# Altium footprint library pedals-jacks.PCBLIB: 19 footprints (part 1 of 2)
Each footprint in its own frame and in the unit in brackets; x right, y up, seen from the top. Pads: shape width x height; smd on the part's side, far side on the other; paste and mask are expansions set on the pad; w line width, h text height; cw(c..) or ccw(c..) is an arc to the next point about the centre after c.
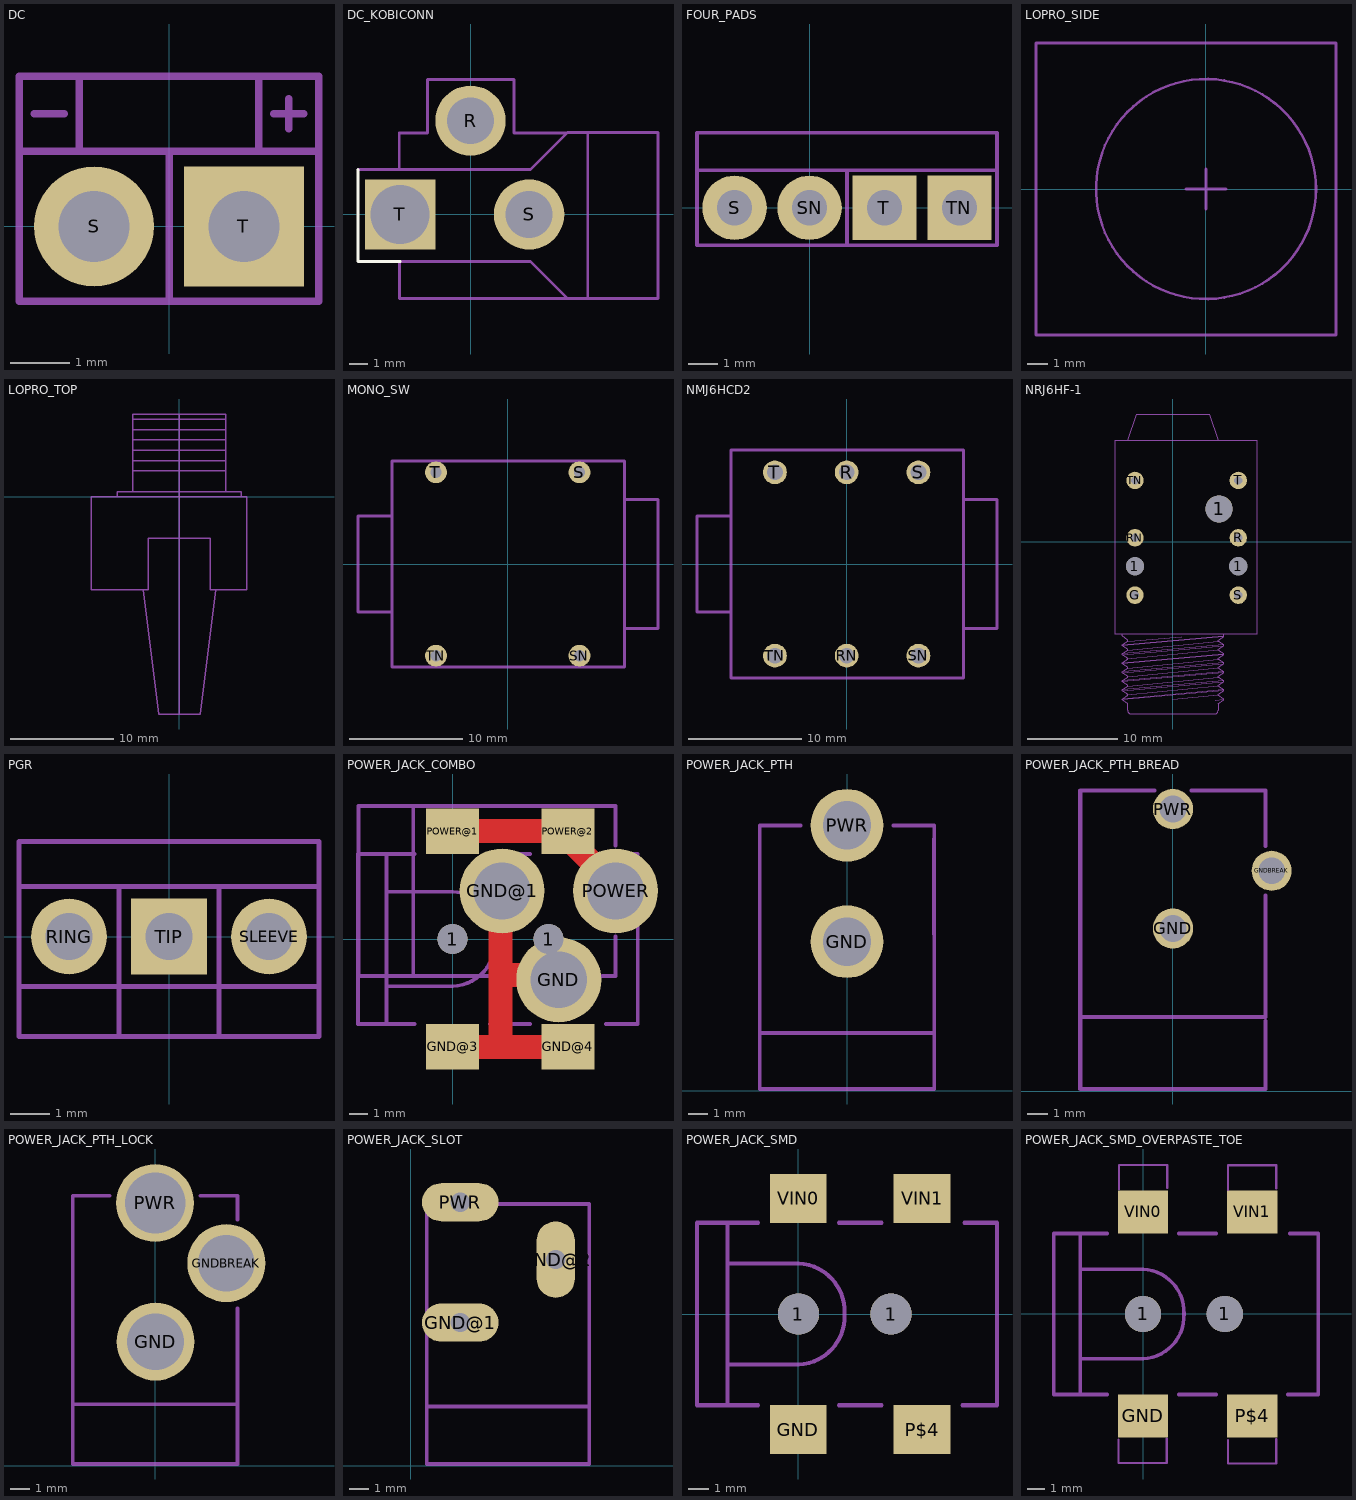
[diagram p0: the footprints below, top view; thin cyan lines are the x and y axes]

## DC [mil]
pads (2):
  round 80 hole 47.24: S(-50,0)
  rect 80x80 hole 47.24: T(50,0)
Mechanical 2:
  lines w5: -90,75 -70,75 ; 70,75 90,75 ; 80,65 80,85 ; -100,50 -60,50 ; -100,50 -100,-50 0,-50 ; -100,50 -100,85 -100,100 -60,100 ; -60,50 0,50 ; -60,50 -60,100 ; -60,100 60,100 ; 0,-50 0,50 ; 0,-50 100,-50 100,50 ; 0,50 60,50 ; 60,50 100,50 ; 60,50 60,100 ; 60,100 100,100 100,85 100,50
Mechanical 3:
  lines w5: -100,50 -60,50 ; -100,50 -100,-50 0,-50 ; -100,50 -100,85 -100,100 -60,100 ; -60,50 0,50 ; -60,50 -60,100 ; -60,100 60,100 ; 0,-50 0,50 ; 0,-50 100,-50 100,50 ; 0,50 60,50 ; 60,50 100,50 ; 60,50 60,100 ; 60,100 100,100 100,85 100,50

## DC_KOBICONN [mil]
pads (3):
  round 150 hole 100: R(0,200) S(125,0)
  rect 150x150 hole 125.98: T(-150,0)
Top Overlay:
  lines w6: -240,96.26 -240,-100.59 -150,-100.59
Mechanical 2:
  lines w6: -240,96 -152,96 ; 127,96 -152,96 ; 128.15,96.26 206.89,175 250,175 ; 206,174 93,174 93,288 -92,288 -92,174 -152,174 -152,96 ; 206.89,-179.33 250,-179.33 ; 206.89,-179.33 -151.18,-179.33 -151.18,-100.59 128.15,-100.59 206.89,-179.33 ; 250,-179.33 250,175 ; 250,-179.33 250,-178.94 250,-179.13 250,-179.33 ; 250,-179.33 400,-179.33 400,175 250,175

## FOUR_PADS [mil]
pads (4):
  round 86 hole 47.24: S(-100,0) SN(0,0)
  rect 86x86 hole 47.24: T(100,0) TN(200,0)
Mechanical 2:
  lines w5: -150,50 50,50 ; -150,50 -150,-50 50,-50 ; -150,50 -150,100 250,100 250,50 ; 50,-50 250,-50 250,50 ; 50,-50 50,50 ; 50,50 250,50
Mechanical 3:
  lines w5: -150,50 50,50 ; -150,50 -150,-50 50,-50 ; -150,50 -150,100 250,100 250,50 ; 50,-50 250,-50 250,50 ; 50,-50 50,50 ; 50,50 250,50

## LOPRO_SIDE [mil]
Mechanical 2:
  circle w5: c0,0 r216.54
  lines w5: -39.37,0 39.37,0 ; 0,-39.37 0,39.37 ; -334.65,-287.4 -334.65,287.4 255.91,287.4 255.91,-287.4 -334.65,-287.4

## LOPRO_TOP [mil]
Mechanical 2:
  lines w5: -39.37,314.96 0,314.96 ; 39.37,314.96 0,314.96 ; -236.22,0 -157.48,0 157.48,0 236.22,0 ; -236.22,0 -334.65,0 -334.65,-354.33 -137.8,-354.33 ; -236.22,0 -236.22,19.69 -177.17,19.69 ; -177.17,19.69 177.17,19.69 ; -177.17,19.69 -177.17,59.06 -177.17,98.43 ; -177.17,98.43 -177.17,137.8 ; -177.17,98.43 177.17,98.43 ; -177.17,137.8 -177.17,177.17 ; -177.17,137.8 177.17,137.8 ; -177.17,177.17 -177.17,216.54 ; -177.17,177.17 177.17,177.17 ; -177.17,216.54 -177.17,255.91 ; -177.17,216.54 177.17,216.54 ; -177.17,255.91 -177.17,295.28 ; -177.17,255.91 177.17,255.91 ; -177.17,295.28 -177.17,314.96 0,314.96 ; -177.17,295.28 177.17,295.28 ; -137.8,-354.33 -118.11,-354.33 -118.11,-157.48 118.11,-157.48 118.11,-354.33 137.8,-354.33 ; -137.8,-354.33 -78.74,-826.77 0,-826.77 ; 0,-826.77 0,314.96 ; 0,-826.77 78.74,-826.77 137.8,-354.33 ; 0,314.96 177.17,314.96 177.17,295.28 ; 137.8,-354.33 255.91,-354.33 255.91,0 236.22,0 ; 177.17,19.69 236.22,19.69 236.22,0 ; 177.17,19.69 177.17,59.06 177.17,98.43 ; 177.17,98.43 177.17,137.8 ; 177.17,137.8 177.17,177.17 ; 177.17,177.17 177.17,216.54 ; 177.17,216.54 177.17,255.91 ; 177.17,255.91 177.17,295.28

## MONO_SW [mil]
pads (4):
  round 76 hole 39.37: S(250,319.49) SN(250,-319.49) T(-250,319.49) TN(-250,-319.49)
Mechanical 2:
  lines w10: -403.54,-167.32 -403.54,167.32 ; -403.54,-167.32 -403.54,-358.27 407.48,-358.27 407.48,-224.41 ; -403.54,-167.32 -521.65,-167.32 -521.65,167.32 -403.54,167.32 ; -403.54,167.32 -403.54,358.27 407.48,358.27 407.48,224.41 ; 407.48,-224.41 407.48,224.41 ; 407.48,-224.41 523.62,-224.41 523.62,224.41 407.48,224.41

## NMJ6HCD2 [mil]
pads (6):
  round 82.68 hole 55.12: R(0,319.49) RN(0,-319.49) S(250,319.49) SN(250,-319.49) T(-250,319.49) TN(-250,-319.49)
Mechanical 2:
  lines w10: -403.54,-167.32 -403.54,167.32 ; -403.54,-167.32 -403.54,-397.64 407.48,-397.64 407.48,-224.41 ; -403.54,-167.32 -521.65,-167.32 -521.65,167.32 -403.54,167.32 ; -403.54,167.32 -403.54,397.64 407.48,397.64 407.48,224.41 ; 407.48,-224.41 407.48,224.41 ; 407.48,-224.41 523.62,-224.41 523.62,224.41 407.48,224.41

## NRJ6HF-1 [mil]
pads (9):
  round 78.74 hole 78.74: 1(-165.35,-106.69) 1(284.65,-106.69)
  round 118.11 hole 118.11: 1(200.79,143.31)
  round 76 hole 35.43: G(-165.35,-232.68) R(284.65,17.32) RN(-165.35,17.32) S(284.65,-232.68) T(284.65,267.32) TN(-165.35,267.32)
Mechanical 2:
  lines w0: -220.47,-688.98 220.47,-649.61 ; -220.47,-685.04 220.47,-645.67 ; -220.47,-649.61 220.47,-610.24 ; -220.47,-645.67 220.47,-606.3 ; -220.47,-610.24 220.47,-570.87 ; -220.47,-606.3 220.47,-566.93 ; -220.47,-570.87 220.47,-531.5 ; -220.47,-531.5 220.47,-492.13 ; -220.47,-527.56 220.47,-488.19 ; -220.47,-492.13 220.47,-452.76 ; -220.47,-488.19 220.47,-448.82 ; -220.47,-452.76 220.47,-413.39 ; -220.47,-448.82 220.47,-409.45 ; -216.54,-566.93 220.47,-527.56 ; -200.79,-669.29 196.85,-629.92 ; -200.79,-511.81 196.85,-472.44 ; -196.85,-629.92 196.85,-590.55 ; -196.85,-590.55 196.85,-551.18 ; -196.85,-551.18 196.85,-511.81 ; -196.85,-472.44 196.85,-433.07 ; -192.91,-433.07 39.37,-413.39 ; 0,-688.98 196.85,-669.29 ; 185.04,-692.91 220.47,-688.98
  lines w5: -220.47,-400 -253.15,-400 -253.15,440.94 -196.85,440.94 ; -220.47,-400 220.47,-400 ; -220.47,-400 -220.47,-409.45 -196.85,-429.13 -196.85,-433.07 -220.47,-448.82 -220.47,-452.76 -196.85,-468.5 -196.85,-472.44 -220.47,-488.19 -220.47,-492.13 -196.85,-507.87 -196.85,-511.81 -220.47,-527.56 -220.47,-531.5 -196.85,-547.24 -196.85,-551.18 -220.47,-566.93 -220.47,-570.87 -196.85,-586.61 -196.85,-590.55 -220.47,-606.3 -220.47,-610.24 -196.85,-625.98 -196.85,-629.92 -220.47,-645.67 -220.47,-649.61 -196.85,-665.35 -196.85,-669.29 -220.47,-685.04 -220.47,-688.98 -196.85,-704.72 -196.85,-734.65 ccw(c-181.1,-734.64) -181.1,-750.39 181.1,-750.39 ccw(c181.1,-734.64) 196.85,-734.65 196.85,-704.72 220.47,-688.98 220.47,-685.04 196.85,-669.29 196.85,-665.35 220.47,-649.61 220.47,-645.67 196.85,-629.92 196.85,-625.98 220.47,-610.24 220.47,-606.3 196.85,-590.55 196.85,-586.61 220.47,-570.87 220.47,-566.93 196.85,-551.18 196.85,-547.24 220.47,-531.5 220.47,-527.56 196.85,-511.81 196.85,-507.87 220.47,-492.13 220.47,-488.19 196.85,-472.44 196.85,-468.5 220.47,-452.76 220.47,-448.82 196.85,-433.07 196.85,-429.13 220.47,-413.39 220.47,-409.45 220.47,-400 ; -196.85,440.94 196.85,440.94 ; -196.85,440.94 -157.48,556.69 157.48,556.69 196.85,440.94 ; 196.85,440.94 366.93,440.94 366.93,-400 220.47,-400

## PGR [mil]
pads (3):
  round 76 hole 47.24: RING(-100,0) SLEEVE(100,0)
  rect 76x76 hole 47.24: TIP(0,0)
Mechanical 2:
  lines w5: -150,-50 -50,-50 ; -150,-50 -150,50 ; -150,-50 -150,-100 -50,-100 ; -150,50 -50,50 ; -150,50 -150,95 150,95 150,50 ; -50,-100 50,-100 ; -50,-100 -50,-50 ; -50,-50 50,-50 ; -50,-50 -50,50 ; -50,50 50,50 ; 50,-100 150,-100 150,-50 ; 50,-100 50,-50 ; 50,-50 150,-50 ; 50,-50 50,50 ; 50,50 150,50 ; 150,-50 150,50
Mechanical 3:
  lines w5: -150,-50 -150,50 -50,50 ; -150,-50 -50,-50 ; -150,-50 -150,-100 -50,-100 ; -50,-100 50,-100 ; -50,-100 -50,-50 ; -50,-50 50,-50 ; -50,-50 -50,50 ; -50,50 50,50 ; 50,-100 150,-100 150,-50 ; 50,-100 50,-50 ; 50,-50 150,-50 ; 50,-50 50,50 ; 50,50 150,50 150,-50

## POWER_JACK_COMBO [mil]
pads (9):
  round 62.99 hole 62.99: 1(0,0) 1(200,0)
  round 177 hole 118: GND(221.26,-85.04) GND@1(103.15,100) POWER(339.37,100)
  rect 110.24x94.49 smd: GND@3(0,-224.41) GND@4(240.16,-224.41) POWER@1(0,224.41) POWER@2(240.16,224.41)
Top Layer:
  lines w50: 0,-225 100,-225 ; 0,225 250,225 250,200 350,100 ; 100,100 100,-75 ; 225,-75 100,-75 ; 250,-225 100,-225 ; 100,-225 100,-75
Mechanical 18:
  lines w8: -78.74,-177.17 -137.8,-177.17 ; -78.74,177.17 -137.8,177.17 ; 78.74,-177.17 161.42,-177.17 ; 78.74,177.17 161.42,177.17 ; 126.77,-77.17 -81.89,-77.17 ; 311.81,-77.17 339.37,-77.17 339.37,5.51 ; 318.9,-177.17 385.83,-177.17 385.83,177.17 322.83,177.17 ; 339.37,194.49 339.37,277.17 -81.89,277.17 ; -137.8,-177.17 -196.85,-177.17 -196.85,177.17 -137.8,177.17 ; -137.8,-177.17 -137.8,-98.43 ; -137.8,-98.43 -137.8,98.43 ; -137.8,-98.43 0,-98.43 ccw(c-4.21,-4.21) 90,0 ccw(c-4.21,4.21) 0,98.43 -137.8,98.43 ; -137.8,98.43 -137.8,177.17 ; -81.89,-77.17 -196.06,-77.17 -196.06,277.17 -81.89,277.17 ; -81.89,-77.17 -81.89,277.17

## POWER_JACK_PTH [mm]
pads (2):
  round 3.75 hole 2.5: GND(0,7.7) PWR(0,13.7)
Mechanical 2:
  lines w0.203: -2.4,13.7 -4.5,13.7 -4.5,3 4.5,3 4.5,8.3 ; 2.4,13.7 4.5,13.7 4.5,13 ; 4.496,8.084 4.496,13.005
Mechanical 18:
  lines w0.203: -4.5,3 -4.5,0.1 4.5,0.1 4.5,3

## POWER_JACK_PTH_BREAD [mm]
pads (3):
  round 1.95 hole 1.3: GND(0,7.9) GNDBREAK(4.8,10.7) PWR(0,13.7)
Mechanical 2:
  lines w0.203: -0.9,14.6 -4.5,14.6 -4.5,3.6 4.5,3.6 4.5,9.5 ; 0.9,14.6 4.5,14.6 4.5,11.9
Mechanical 18:
  lines w0.203: -4.5,3.6 -4.5,0.1 4.5,0.1 4.5,3.4

## POWER_JACK_PTH_LOCK [mil]
pads (3):
  round 162 hole 118: GND(1,258.15) GNDBREAK(148.09,421.26)
  round 162 hole 125.98: PWR(0,546.37)
Mechanical 2:
  lines w8: -94.49,561.37 -171.17,561.37 -171.17,128.11 171.17,128.11 171.17,326.77 ; 94.49,561.37 171.17,561.37 171.17,511.81
Mechanical 18:
  region: 58,528 58,546 -57,546 -57,528
  region: 48,291 48,302 -48,302 -48,291
  region: 187,469 176,469 176,373 187,373
  lines w8: -171.17,129.11 -171.17,3.94 171.17,3.94 171.17,129.11

## POWER_JACK_SLOT [mm]
pads (3):
  oval 4x2 hole 1: GND@1(2.58,7.5) PWR(2.58,13.8)
  oval 2x4 hole 1: GND@2(7.58,10.8)
Mechanical 2:
  lines w0.203: 0.83,6.51 0.83,3.1 9.33,3.1 ; 0.83,8.4 0.83,12.7 ; 4.83,13.7 9.33,13.7 9.33,3.1 ; 9.28,3.1 9.33,3.1
Mechanical 13:
  lines w0: 0.98,13.8 4.18,13.8 ; 0.98,13.8 cw(c1.48,13.8) 1.48,14.3 3.68,14.3 cw(c3.68,13.8) 4.18,13.8 ; 0.98,13.8 ccw(c1.48,13.8) 1.48,13.3 3.68,13.3 ccw(c3.68,13.8) 4.18,13.8 ; 0.98,7.5 cw(c1.48,7.5) 1.48,8 3.68,8 cw(c3.68,7.5) 4.18,7.5 cw(c3.68,7.5) 3.68,7 1.48,7 cw(c1.48,7.5) 0.98,7.5 ; 7.08,9.7 ccw(c7.58,9.7) 7.58,9.2 ccw(c7.58,9.7) 8.08,9.7 8.08,11.9 ccw(c7.58,11.9) 7.58,12.4 ccw(c7.58,11.9) 7.08,11.9 7.08,9.7
Mechanical 18:
  lines w0.203: 0.83,3.1 0.83,0.1 9.33,0.1 9.33,3.1 ; 0.83,6.55 0.83,8.4 ; 0.83,12.7 0.83,13.7 4.83,13.7

## POWER_JACK_SMD [mil]
pads (6):
  round 80 hole 80: 1(0,0) 1(180,0)
  rect 110.24x94.49 smd: GND(0,-224.41) P$4(240.16,-224.41) VIN0(0,224.41) VIN1(240.16,224.41)
Mechanical 2:
  lines w8: -78.74,-177.17 -137.8,-177.17 -137.8,-98.43 ; -78.74,177.17 -137.8,177.17 -137.8,98.43 ; 78.74,-177.17 161.42,-177.17 ; 78.74,177.17 161.42,177.17 ; 318.9,-177.17 385.83,-177.17 385.83,177.17 322.83,177.17 ; -137.8,-98.43 -137.8,98.43 ; -137.8,-98.43 0,-98.43 ccw(c-4.21,-4.21) 90,0 ccw(c-4.21,4.21) 0,98.43 -137.8,98.43
Mechanical 18:
  lines w8: -137.8,-177.17 -196.85,-177.17 -196.85,177.17 -137.8,177.17

## POWER_JACK_SMD_OVERPASTE_TOE [mil]
pads (6):
  round 80 hole 80: 1(0,0) 1(180,0)
  rect 110.24x94.49 smd: GND(0,-224.41) P$4(240.16,-224.41) VIN0(0,224.41) VIN1(240.16,224.41)
Top Paste:
  rectangle: -55.1,-330 55.1,-271.5
  rectangle: 185.1,-330.1 295.3,-271.6
  region: 295.3,330 185.1,330 185.1,271.5 295.3,271.5
  region: 55.1,330 -55.1,330 -55.1,271.5 55.1,271.5
Mechanical 2:
  lines w8: -78.74,-177.17 -137.8,-177.17 -137.8,-98.43 ; -78.74,177.17 -137.8,177.17 -137.8,98.43 ; 78.74,-177.17 161.42,-177.17 ; 78.74,177.17 161.42,177.17 ; 318.9,-177.17 385.83,-177.17 385.83,177.17 322.83,177.17 ; -137.8,-98.43 -137.8,98.43 ; -137.8,-98.43 0,-98.43 ccw(c-4.21,-4.21) 90,0 ccw(c-4.21,4.21) 0,98.43 -137.8,98.43
Mechanical 18:
  lines w5: -54,-277 -54,-328 52,-328 52,-274 ; -53,274 -53,328 53,328 53,277 ; 187,-278 187,-329 293,-329 293,-275 ; 187,273 187,327 293,327 293,276
  lines w8: -137.8,-177.17 -196.85,-177.17 -196.85,177.17 -137.8,177.17
Mech81:
  drawing of 250 lines, arcs and shapes, not listed